# Altium integrated library Texas Instruments Power Management PWM Controller.IntLib: 1227 symbols (part 2 of 49)
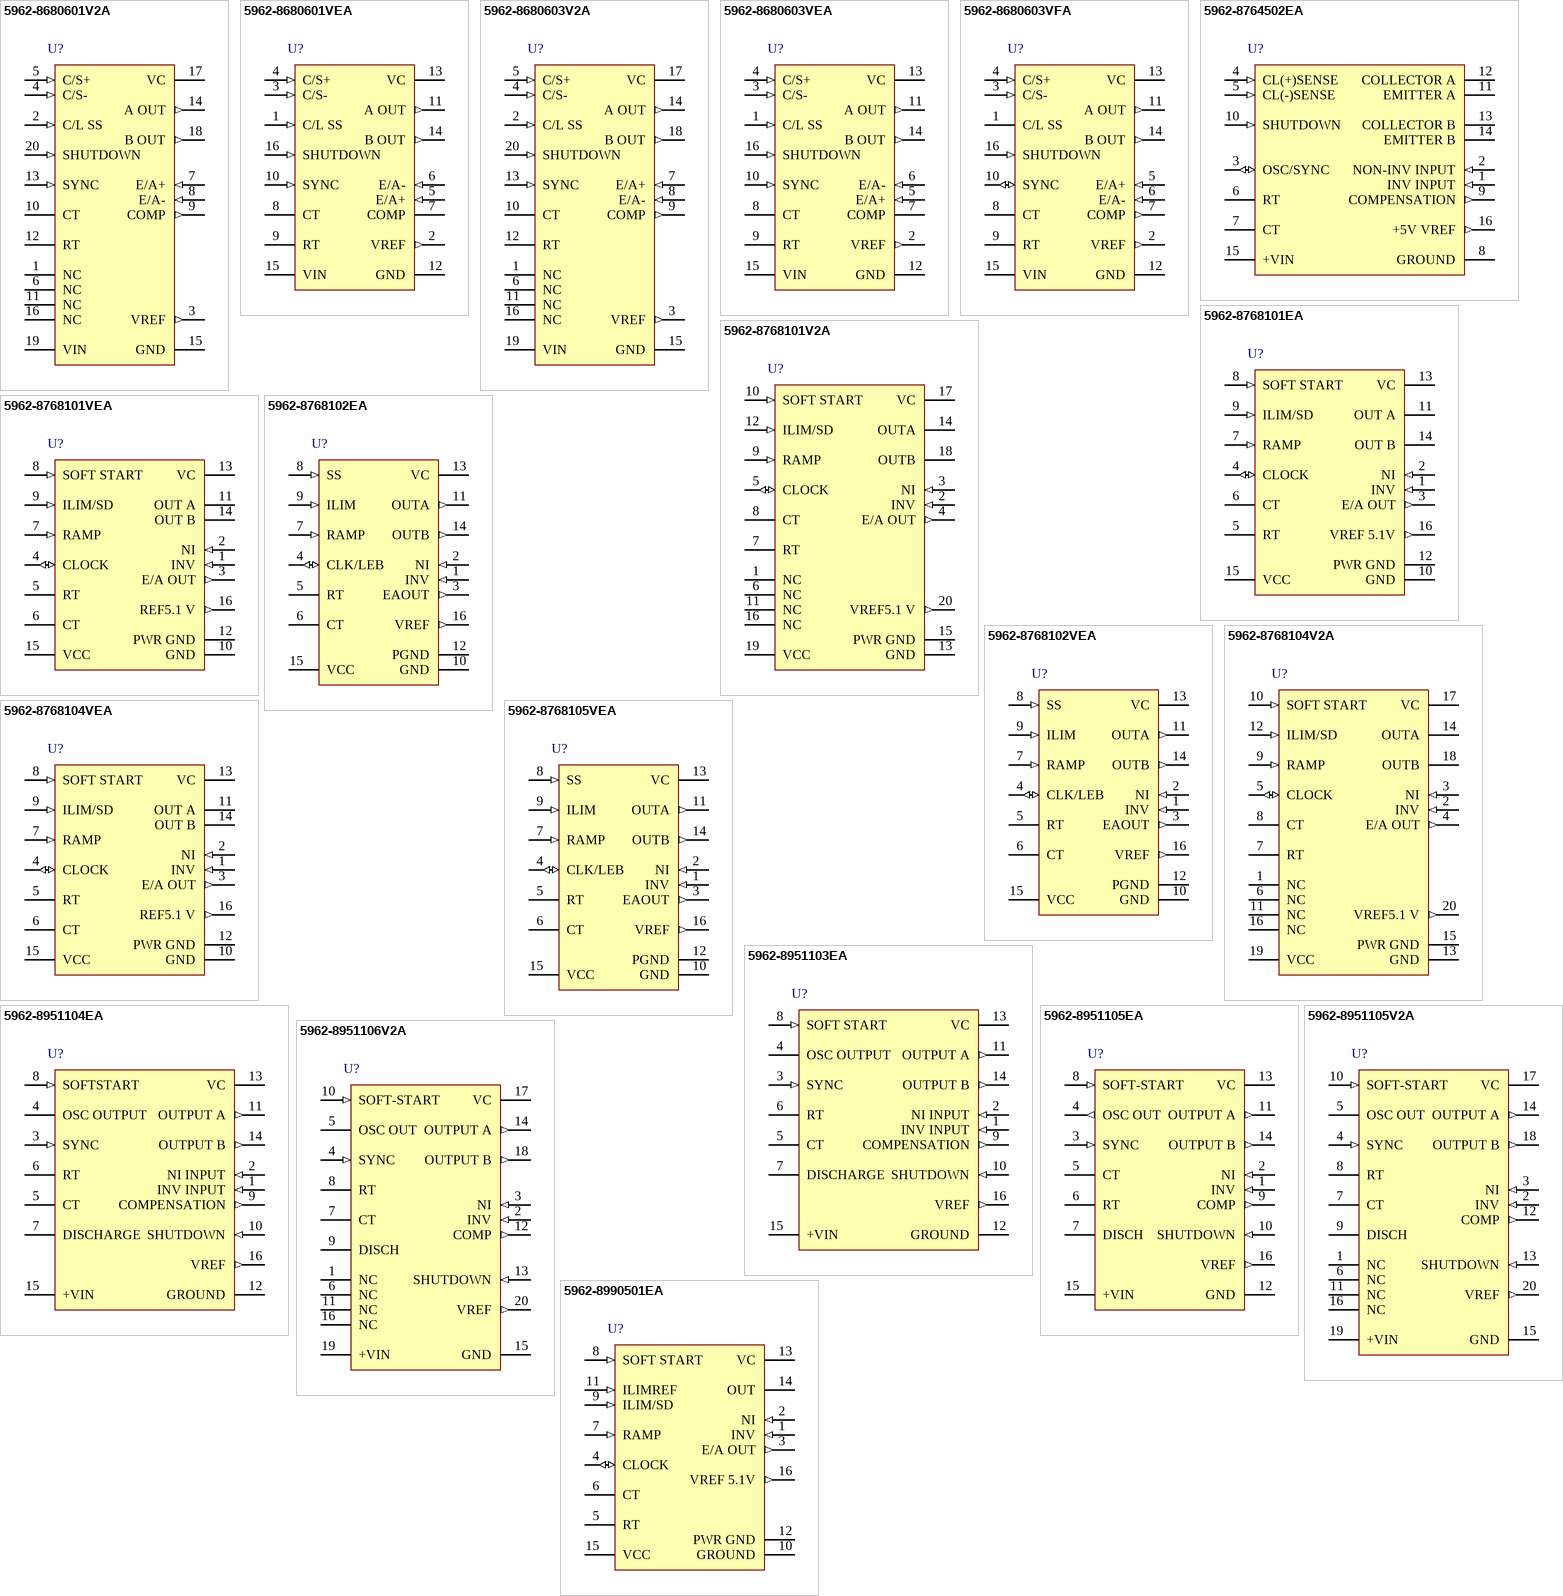
[diagram p44: symbols 5962-8680601V2A to 5962-8990501EA]

## 5962-8768102VEA
designator U?
Rad-Tolerant Class-V, High-Speed PWM Controller with Current Control, 50 % Duty Cycle, -55 to +125 degC, 16-pin CDIP (J); PartNumber: 5962-8768102VEA; Manufacturer: Texas Instruments; Duty Cycle(Max)(%): 50; Eco-Plan: TBD; Frequency(Max)(kHz): 1000; Rating: Space; Regulated Outputs(#): 2; Topology: Boost, Flyback, Forward, Full-Bridge, Half-Bridge, Push-Pull; UVLO Thresholds On/Off(V): 9.2/8.4; DatasheetVersion: SLUS873A; PackageVersion: revF, Mar-2003; PackageReference: J16; PackageDescription: 16-Pin, Ceramic Dual In-Line Package, Row Spacing 7.62 mm, Pitch 2.54 mm; Control Method: Current; SubFamily: PWM Controller; Mounting Technology: Through Hole; ComponentLink1Description: Datasheet; ComponentLink1URL: http://www.ti.com/general/docs/lit/getliterature.tsp?genericPartNumber=UC1825A-SP&fileType=pdf
footprint J16 (DIP, 16-Leads, Row Spacing 7.62mm, Pitch 2.54mm, Body 21.3x6.9mm)
pins: 1 INV (in) "Inverting input to the error amplifier", 2 NI (in) "Non-inverting input to the error amplifier", 3 EAOUT (out) "Output of the error amplifier for compensation", 4 CLK/LEB (io) "Output of the internal oscillator", 5 RT "Timing resistor connection pin for oscillator frequency programming", 6 CT "Timing capacitor connection pin for oscillator frequency programming. The timing capacitor should be connected to the device ground using minimal trace length.", 7 RAMP (in) "Non-inverting input to the PWM comparator with 1.25-V internal input offset. In voltage mode operation,this serves as the input voltage feed-forward function by using the CT ramp. In peak current mode operation, this serves (See Datasheet)", 8 SS (in) "Soft-start input pin which also doubles as the maximum duty cycle clamp.", 9 ILIM (in) "Input to the current limit comparator", 10 GND (power) "Analog ground return pin", 11 OUTA (out) "High current totem pole output A of the on-chip drive stage.", 12 PGND (power) "Ground return pin for the output driver stage", 13 VC (power) "Power supply pin for the output stage. This pin should be bypassed with a 0.1-uF monolithic ceramic low ESL capacitor with minimal trace lengths.", 14 OUTB (out) "High current totem pole output B of the on-chip drive stage.", 15 VCC (power) "Power supply pin for the device. This pin should be bypassed with a 0.1-uF monolithic ceramic low ESL capacitor with minimal trace lengths", 16 VREF (out) "5.1-V reference. For stability, the reference should be bypassed with a 0.1-uF monolithic ceramic low ESL capacitor and minimal trace length to the ground plane."

## 5962-8768104V2A
designator U?
Rad-Tolerant Class V, High-Speed PWM Controller with Current Control, 50 % Duty Cycle, -55 to +125 degC, 20-pin LCCC (FK); PartNumber: 5962-8768104V2A; Manufacturer: Texas Instruments; Duty Cycle(Max)(%): 50; Eco-Plan: TBD; Frequency(Max)(kHz): 1000; Rating: Space; Regulated Outputs(#): 2; Topology: Boost, Flyback, Forward, Full-Bridge, Half-Bridge, Push-Pull; UVLO Thresholds On/Off(V): 9.2/8.4; DatasheetVersion: SLUS870A; PackageVersion: revD, Jan-2011; PackageReference: FK20; PackageDescription: 20-Pin Leadless Ceramic Chip Carrier, 1.27 mm Pitch; Supplier 1: Mouser; Supplier Part Number 1: 595-5962-8768104V2A; Control Method: Current; SubFamily: PWM Controller; Mounting Technology: Surface Mount; Code_JEDEC: MS-004; ComponentLink1Description: Datasheet; ComponentLink1URL: http://www.ti.com/general/docs/lit/getliterature.tsp?genericPartNumber=UC1825-SP&fileType=pdf
footprint FK20_N (Leadless Chip Carrier, 20-Leads, Body 8.9x8.9mm, Pitch 1.27mm, IPC Medium Density)
footprint FK20_L (Leadless Chip Carrier, 20-Leads, Body 8.9x8.9mm, Pitch 1.27mm, IPC High Density)
footprint FK20_M (Leadless Chip Carrier, 20-Leads, Body 8.9x8.9mm, Pitch 1.27mm, IPC Low Density)
pins: 1 NC "No connection", 2 INV (in) "Inverting input to the error amplifier", 3 NI (in) "Non-inverting input to the error amplifier", 4 E/A OUT (out) "Output of the error amplifier for compensation", 5 CLOCK (io) "Output of the internal oscillator", 6 NC "No connection", 7 RT "Timing resistor connection pin for oscillator frequency programming", 8 CT "Timing capacitor connection pin for oscillator frequency programming. The timing capacitor should be connected to the device ground using minimal trace length.", 9 RAMP (in) "Non-inverting input to the PWM comparator with 1.25-V internal input offset. In voltage mode operation this serves as the input voltage feed-forward function by using the CT ramp. In peak current mode operation, this serves (See Datasheet)", 10 SOFT START (in) "Soft-start input pin which also doubles as the maximum duty cycle clamp", 11 NC "No connection", 12 ILIM/SD (in) "Input to the current limit comparator and the shutdown comparator", 13 GND (power) "Analog ground return pin", 14 OUTA (hiz) "High-current totem pole output A of the on-chip drive stage", 15 PWR GND (power) "Ground return pin for the output driver stage", 16 NC "No connection", 17 VC (power) "Power supply pin for the output stage. This pin should be bypassed with a 0.1-uF monolithic ceramic low ESL capacitor with minimal trace lengths.", 18 OUTB (hiz) "High-current totem pole output B of the on-chip drive stage", 19 VCC (power) "Power supply pin for the device. This pin should be bypassed with a 0.1-uF monolithic ceramic low ESL capacitor with minimal trace lengths.", 20 VREF5.1 V (out) "5.1-V reference. For stability, the reference should be bypassed with a 0.1-uF monolithic ceramic low ESL capacitor and minimal trace length to the ground plane."

## 5962-8768104VEA
designator U?
Rad-Tolerant Class V, High-Speed PWM Controller with Current Control, 50 % Duty Cycle, -55 to +125 degC, 16-pin CDIP (J); PartNumber: 5962-8768104VEA; Manufacturer: Texas Instruments; Duty Cycle(Max)(%): 50; Eco-Plan: TBD; Frequency(Max)(kHz): 1000; Rating: Space; Regulated Outputs(#): 2; Topology: Boost, Flyback, Forward, Full-Bridge,Half-Bridge, Push-Pull; UVLO Thresholds On/Off(V): 9.2/8.4; DatasheetVersion: SLUS870A; PackageVersion: revF, Mar-2003; PackageReference: J16; PackageDescription: 16-Pin, Ceramic Dual In-Line Package, Row Spacing 7.62 mm, Pitch 2.54 mm; Supplier 1: Mouser; Supplier Part Number 1: 595-5962-8768104VEA; Control Method: Current; SubFamily: PWM Controller; Mounting Technology: Through Hole; ComponentLink1Description: Datasheet; ComponentLink1URL: http://www.ti.com/general/docs/lit/getliterature.tsp?genericPartNumber=UC1825-SP&fileType=pdf
footprint J16 (DIP, 16-Leads, Row Spacing 7.62mm, Pitch 2.54mm, Body 21.3x6.9mm)
pins: 1 INV (in) "Inverting input to the error amplifier.", 2 NI (in) "Non-inverting input to the error amplifier.", 3 E/A OUT (out) "Output of the error amplifier for compensation.", 4 CLOCK (io) "Output of the internal oscillator.", 5 RT "Timing resistor connection pin for oscillator frequency programming.", 6 CT "Timing capacitor connection pin for oscillator frequency programming. The timing capacitor  should be connected to the device ground using minimal trace length.", 7 RAMP (in) "Non-inverting input to the PWM comparator with 1.25-V internal input offset. In voltage  mode operation this serves as the input voltage feed-forward function by using the CT ramp. In peak current mode operation, this serves (See Datasheet)", 8 SOFT START (in) "Soft-start input pin which also doubles as the maximum duty cycle clamp.", 9 ILIM/SD (in) "Input to the current limit comparator and the shutdown comparator.", 10 GND (power) "Analog ground return pin.", 11 OUT A (hiz) "High-current totem pole output A of the on-chip drive stage.", 12 PWR GND (power) "Ground return pin for the output driver stage.", 13 VC (power) "Power supply pin for the output stage. This pin should be bypassed with a 0.1-uF  monolithic ceramic low ESL capacitor with minimal trace lengths.", 14 OUT B (hiz) "High-current totem pole output B of the on-chip drive stage.", 15 VCC (power) "Power supply pin for the device. This pin should be bypassed with a 0.1-uF monolithic  ceramic low ESL capacitor with minimal trace lengths.", 16 REF5.1 V (out) "5.1-V reference. For stability, the reference should be bypassed with a 0.1-uF monolithic ceramic low ESL capacitor and minimal trace length to the ground plane."

## 5962-8768105VEA
designator U?
Rad-Tolerant Class-V, High-Speed PWM Controller with Current Control, 50 % Duty Cycle, -55 to +125 degC, 16-pin CDIP (J); PartNumber: 5962-8768105VEA; Manufacturer: Texas Instruments; Duty Cycle(Max)(%): 50; Eco-Plan: TBD; Frequency(Max)(kHz): 1000; Rating: Space; Regulated Outputs(#): 2; Topology: Boost, Flyback, Forward, Full-Bridge,Half-Bridge, Push-Pull; UVLO Thresholds On/Off(V): 9.2/8.4; DatasheetVersion: SLUS873A; PackageVersion: revF, Mar-2003; PackageReference: J16; PackageDescription: 16-Pin, Ceramic Dual In-Line Package, Row Spacing 7.62 mm, Pitch 2.54 mm; Supplier 1: Mouser; Supplier Part Number 1: N/A; Control Method: Current; SubFamily: PWM Controller; Mounting Technology: Through Hole; ComponentLink1Description: Datasheet; ComponentLink1URL: http://www.ti.com/general/docs/lit/getliterature.tsp?genericPartNumber=UC1825A-SP&fileType=pdf
footprint J16 (DIP, 16-Leads, Row Spacing 7.62mm, Pitch 2.54mm, Body 21.3x6.9mm)
pins: 1 INV (in) "Inverting input to the error amplifier", 2 NI (in) "Non-inverting input to the error amplifier", 3 EAOUT (out) "Output of the error amplifier for compensation", 4 CLK/LEB (io) "Output of the internal oscillator", 5 RT "Timing resistor connection pin for oscillator frequency programming", 6 CT "Timing capacitor connection pin for oscillator frequency programming. The timing capacitor should be connected to the device ground using minimal trace length.", 7 RAMP (in) "Non-inverting input to the PWM comparator with 1.25-V internal input offset. In voltage mode operation,this serves as the input voltage feed-forward function by using the CT ramp. In peak current mode operation, this serves (See Datasheet)", 8 SS (in) "Soft-start input pin which also doubles as the maximum duty cycle clamp.", 9 ILIM (in) "Input to the current limit comparator", 10 GND (power) "Analog ground return pin", 11 OUTA (out) "High current totem pole output A of the on-chip drive stage.", 12 PGND (power) "Ground return pin for the output driver stage", 13 VC (power) "Power supply pin for the output stage. This pin should be bypassed with a 0.1-uF monolithic ceramic low ESL capacitor with minimal trace lengths.", 14 OUTB (out) "High current totem pole output B of the on-chip drive stage.", 15 VCC (power) "Power supply pin for the device. This pin should be bypassed with a 0.1-uF monolithic ceramic low ESL capacitor with minimal trace lengths", 16 VREF (out) "5.1-V reference. For stability, the reference should be bypassed with a 0.1-uF monolithic ceramic low ESL capacitor and minimal trace length to the ground plane."

## 5962-8951103EA
designator U?
Regulating Pulse Width Modulator with Voltage Control, 50 % Duty Cycle, -55 to +125 degC, 16-pin CDIP (J); PartNumber: 5962-8951103EA; Manufacturer: Texas Instruments; Duty Cycle(Max)(%): 50; Eco-Plan: TBD; Frequency(Max)(kHz): 450; Rating: Military; Regulated Outputs(#): 2; SubFamily: PWM Controller; Topology: Boost, Flyback, Forward, Full-Bridge, Half-Bridge, Push-Pull; DatasheetVersion: SLUS191C; PackageVersion: revF, Mar-2003; PackageReference: J16; PackageDescription: 16-Pin, Ceramic Dual In-Line Package, Row Spacing 7.62 mm, Pitch 2.54 mm; Control Method: Voltage; UVLO Thresholds On/Off(V): 7/6.8; Mounting Technology: Through Hole; ComponentLink1Description: Datasheet; ComponentLink1URL: http://www.ti.com/general/docs/lit/getliterature.tsp?genericPartNumber=UC1525A&fileType=pdf
footprint J16 (DIP, 16-Leads, Row Spacing 7.62mm, Pitch 2.54mm, Body 21.3x6.9mm)
pins: 1 INV INPUT (in), 2 NI INPUT (in), 3 SYNC (in), 4 OSC OUTPUT, 5 CT, 6 RT, 7 DISCHARGE (oc), 8 SOFT START (in), 9 COMPENSATION (out), 10 SHUTDOWN (in), 11 OUTPUT A (out), 12 GROUND (power), 13 VC (power), 14 OUTPUT B (out), 15 +VIN (power), 16 VREF (out)

## 5962-8951104EA
designator U?
Regulating Pulse Width Modulator with Voltage Control, 50 % Duty Cycle, -55 to +125 degC, 16-pin CDIP (J); PartNumber: 5962-8951104EA; Manufacturer: Texas Instruments; Duty Cycle(Max)(%): 50; Eco-Plan: TBD; Frequency(Max)(kHz): 450; Rating: Military; Regulated Outputs(#): 2; SubFamily: PWM Controller; Topology: Boost, Flyback, Forward, Full-Bridge, Half-Bridge, Push-Pull; DatasheetVersion: SLUS191C; PackageVersion: revF, Mar-2003; PackageReference: J16; PackageDescription: 16-Pin, Ceramic Dual In-Line Package, Row Spacing 7.62 mm, Pitch 2.54 mm; Control Method: Voltage; UVLO Thresholds On/Off(V): 7/6.8; Mounting Technology: Through Hole; ComponentLink1Description: Datasheet; ComponentLink1URL: http://www.ti.com/general/docs/lit/getliterature.tsp?genericPartNumber=UC1527A&fileType=pdf
footprint J16 (DIP, 16-Leads, Row Spacing 7.62mm, Pitch 2.54mm, Body 21.3x6.9mm)
pins: 1 INV INPUT (in), 2 NI INPUT (in), 3 SYNC (in), 4 OSC OUTPUT, 5 CT, 6 RT, 7 DISCHARGE (oc), 8 SOFTSTART (in), 9 COMPENSATION (out), 10 SHUTDOWN (in), 11 OUTPUT A (out), 12 GROUND (power), 13 VC (power), 14 OUTPUT B (out), 15 +VIN (power), 16 VREF (out)

## 5962-8951105EA
designator U?
Regulating Pulse Width Modulator with Voltage Control, 50 % Duty Cycle, -55 to +125 degC, 16-pin CDIP (J); PartNumber: 5962-8951105EA; Manufacturer: Texas Instruments; Duty Cycle(Max)(%): 50; Eco-Plan: TBD; Frequency(Max)(kHz): 450; Rating: Military; Regulated Outputs(#): 2; SubFamily: PWM Controller; Topology: Boost, Flyback, Forward, Full-Bridge, Half-Bridge, Push-Pull; DatasheetVersion: SLUS376; PackageVersion: revF, Mar-2003; PackageReference: J16; PackageDescription: 16-Pin, Ceramic Dual In-Line Package, Row Spacing 7.62 mm, Pitch 2.54 mm; Control Method: Voltage; UVLO Thresholds On/Off(V): 7/6.8; Mounting Technology: Through Hole; ComponentLink1Description: Datasheet; ComponentLink1URL: http://www.ti.com/general/docs/lit/getliterature.tsp?genericPartNumber=UC1525B&fileType=pdf
footprint J16 (DIP, 16-Leads, Row Spacing 7.62mm, Pitch 2.54mm, Body 21.3x6.9mm)
pins: 1 INV (in), 2 NI (in), 3 SYNC (in), 4 OSC OUT (out), 5 CT, 6 RT, 7 DISCH (oc), 8 SOFT-START (in), 9 COMP (out), 10 SHUTDOWN (in), 11 OUTPUT A (out), 12 GND (power), 13 VC (power), 14 OUTPUT B (out), 15 +VIN (power), 16 VREF (out)

## 5962-8951105V2A
designator U?
Rad-Tolerant Class-V Regulating Pulse Width Modulator with Voltage Control, 50 % Duty Cycle, -55 to +125 degC, 20-pin LCCC (FK); PartNumber: 5962-8951105V2A; Manufacturer: Texas Instruments; Duty Cycle(Max)(%): 50; Eco-Plan: TBD; Frequency(Max)(kHz): 400; Rating: Space; Regulated Outputs(#): 2; SubFamily: PWM Controller; Topology: Boost, Flyback, Forward, Full-Bridge, Half-Bridge, Push-Pull; DatasheetVersion: SLUS874; PackageVersion: revD, Jan-2011; PackageReference: FK20; PackageDescription: 20-Pin Leadless Ceramic Chip Carrier, 1.27 mm Pitch; Supplier 1: Mouser; Supplier Part Number 1: 595-5962-8951105V2A; Control Method: Voltage; UVLO Thresholds On/Off(V): 7/6.8; Mounting Technology: Surface Mount; Code_JEDEC: MS-004; ComponentLink1Description: Datasheet; ComponentLink1URL: http://www.ti.com/general/docs/lit/getliterature.tsp?genericPartNumber=UC1525B-SP&fileType=pdf
footprint FK20_N (Leadless Chip Carrier, 20-Leads, Body 8.9x8.9mm, Pitch 1.27mm, IPC Medium Density)
footprint FK20_L (Leadless Chip Carrier, 20-Leads, Body 8.9x8.9mm, Pitch 1.27mm, IPC High Density)
footprint FK20_M (Leadless Chip Carrier, 20-Leads, Body 8.9x8.9mm, Pitch 1.27mm, IPC Low Density)
pins: 1 NC, 2 INV (in), 3 NI (in), 4 SYNC (in), 5 OSC OUT, 6 NC, 7 CT, 8 RT, 9 DISCH (oc), 10 SOFT-START (in), 11 NC, 12 COMP (out), 13 SHUTDOWN (in), 14 OUTPUT A (out), 15 GND (power), 16 NC, 17 VC (power), 18 OUTPUT B (out), 19 +VIN (power), 20 VREF (out)

## 5962-8951106V2A
designator U?
Rad-Tolerant Class-V Regulating Pulse Width Modulator with Voltage Control, 50 % Duty Cycle, -55 to +125 degC, 20-pin LCCC (FK); PartNumber: 5962-8951106V2A; Manufacturer: Texas Instruments; Duty Cycle(Max)(%): 50; Eco-Plan: TBD; Frequency(Max)(kHz): 400; Rating: Space; Regulated Outputs(#): 2; SubFamily: PWM Controller; Topology: Boost, Flyback, Forward, Full-Bridge, Half-Bridge, Push-Pul; DatasheetVersion: SLUS874; PackageVersion: revD, Jan-2011; PackageReference: FK20; PackageDescription: 20-Pin Leadless Ceramic Chip Carrier, 1.27 mm Pitch; Supplier 1: Mouser; Supplier Part Number 1: 595-5962-8951106V2A; Control Method: Voltage; UVLO Thresholds On/Off(V): 7/6.8; Mounting Technology: Surface Mount; Code_JEDEC: MS-004; ComponentLink1Description: Datasheet; ComponentLink1URL: http://www.ti.com/general/docs/lit/getliterature.tsp?genericPartNumber=UC1525B-SP&fileType=pdf
footprint FK20_N (Leadless Chip Carrier, 20-Leads, Body 8.9x8.9mm, Pitch 1.27mm, IPC Medium Density)
footprint FK20_L (Leadless Chip Carrier, 20-Leads, Body 8.9x8.9mm, Pitch 1.27mm, IPC High Density)
footprint FK20_M (Leadless Chip Carrier, 20-Leads, Body 8.9x8.9mm, Pitch 1.27mm, IPC Low Density)
pins: 1 NC, 2 INV (in), 3 NI (in), 4 SYNC (in), 5 OSC OUT, 6 NC, 7 CT, 8 RT, 9 DISCH (oc), 10 SOFT-START (in), 11 NC, 12 COMP (out), 13 SHUTDOWN (in), 14 OUTPUT A (out), 15 GND (power), 16 NC, 17 VC (power), 18 OUTPUT B (out), 19 +VIN (power), 20 VREF (out)

## 5962-8990501EA
designator U?
High Speed PWM Controller with Current Control, 100 % Duty Cycle, -55 to +125 degC, 16-pin CDIP (J); PartNumber: 5962-8990501EA; Manufacturer: Texas Instruments; Duty Cycle(Max)(%): 100; Eco-Plan: TBD; Frequency(Max)(kHz): 1000; Rating: Military; Regulated Outputs(#): 1; Topology: Boost, Buck, Flyback, Forward; UVLO Thresholds On/Off(V): 9.2/8.4; DatasheetVersion: SLUS219B; PackageVersion: revF, Mar-2003; PackageReference: J16; PackageDescription: 16-Pin, Ceramic Dual In-Line Package, Row Spacing 7.62 mm, Pitch 2.54 mm; Control Method: Current; SubFamily: PWM Controller; Mounting Technology: Through Hole; ComponentLink1Description: Datasheet; ComponentLink1URL: http://www.ti.com/general/docs/lit/getliterature.tsp?genericPartNumber=UC1823&fileType=pdf
footprint J16 (DIP, 16-Leads, Row Spacing 7.62mm, Pitch 2.54mm, Body 21.3x6.9mm)
pins: 1 INV (in), 2 NI (in), 3 E/A OUT (out), 4 CLOCK (io), 5 RT, 6 CT, 7 RAMP (in), 8 SOFT START (in), 9 ILIM/SD (in), 10 GROUND (power), 11 ILIMREF (in), 12 PWR GND (power), 13 VC (power), 14 OUT (hiz), 15 VCC (power), 16 VREF 5.1V (out)

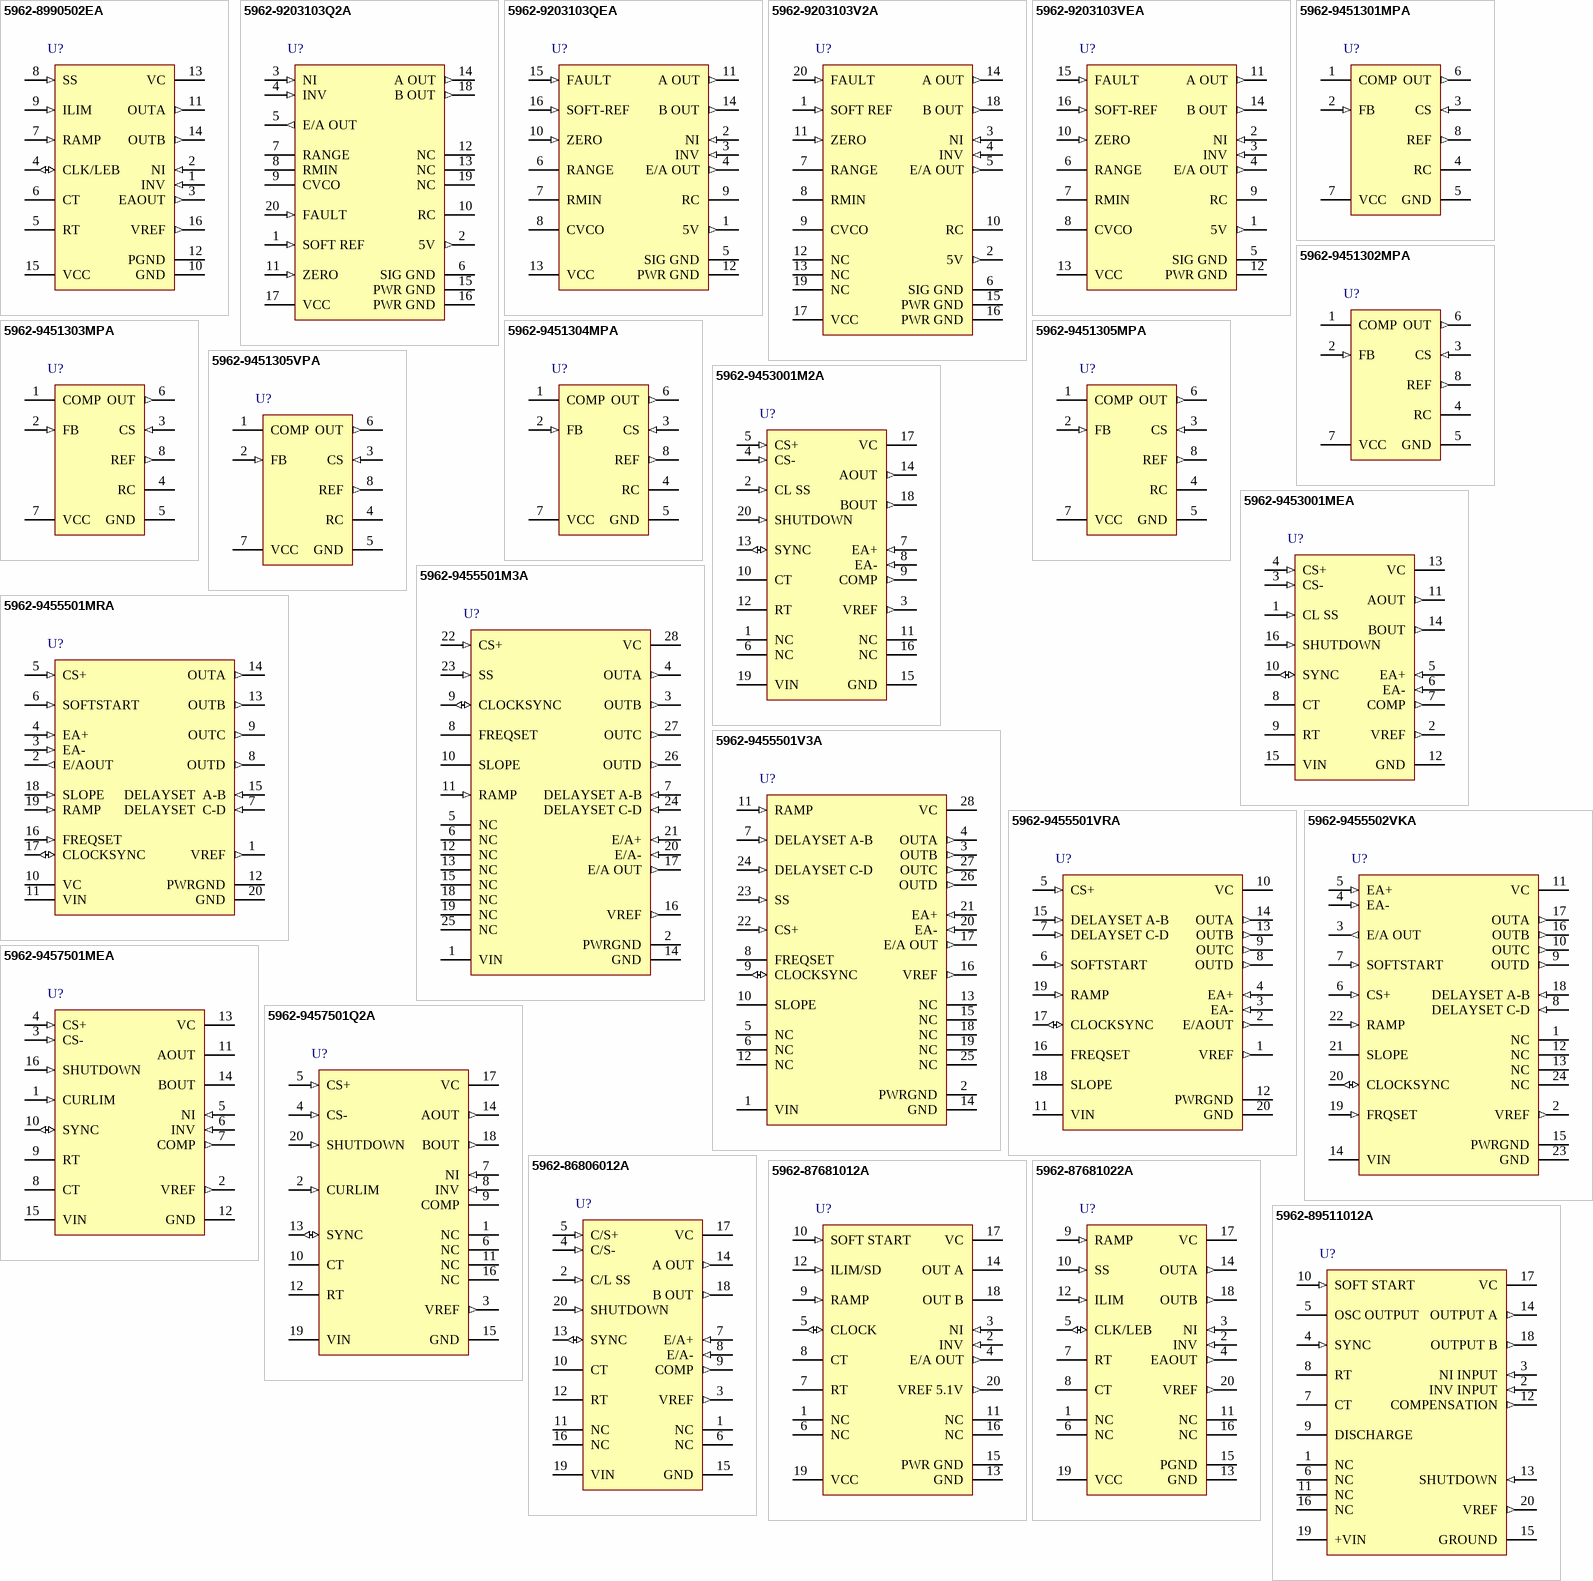
[diagram p2: symbols 5962-8990502EA to 5962-89511012A]

## 5962-8990502EA
designator U?
High-Speed PWM Controller with Current Control, 100 % Duty Cycle, -55 to +125 degC, 16-pin CDIP (J); PartNumber: 5962-8990502EA; Manufacturer: Texas Instruments; Duty Cycle(Max)(%): 100; Eco-Plan: TBD; Frequency(Max)(kHz): 1000; Rating: Military; Regulated Outputs(#): 1; Topology: Boost, Buck, Flyback, Forward; UVLO Thresholds On/Off(V): 16/10; DatasheetVersion: SLUS334E; PackageVersion: revF, Mar-2003; PackageReference: J16; PackageDescription: 16-Pin, Ceramic Dual In-Line Package, Row Spacing 7.62 mm, Pitch 2.54 mm; Control Method: Current; SubFamily: PWM Controller; Mounting Technology: Through Hole; ComponentLink1Description: Datasheet; ComponentLink1URL: http://www.ti.com/general/docs/lit/getliterature.tsp?genericPartNumber=UC1823A&fileType=pdf
footprint J16 (DIP, 16-Leads, Row Spacing 7.62mm, Pitch 2.54mm, Body 21.3x6.9mm)
pins: 1 INV (in) "Inverting input to the error amplifier", 2 NI (in) "Non-inverting input to the error amplifier", 3 EAOUT (out) "Output of the error amplifier for compensation", 4 CLK/LEB (io) "Output of the internal oscillator", 5 RT "Timing resistor connection pin for oscillator frequency programming", 6 CT "Timing capacitor connection pin for oscillator frequency programming. The timing capacitor should be connected to the device ground using minimal trace length.", 7 RAMP (in) "Non-inverting input to the PWM comparator with 1.25-V internal input offset. In voltage mode operation, this serves as the input voltage feed-forward function by using the CT ramp. In peak current mode operation, this serves (See Datasheet)", 8 SS (in) "Soft-start input pin which also doubles as the maximum duty cycle clamp.", 9 ILIM (in) "Input to the current limit comparator", 10 GND (power) "Analog ground return pin", 11 OUTA (out) "High current totem pole output A of the on-chip drive stage.", 12 PGND (power) "Ground return pin for the output driver stage", 13 VC (power) "Power supply pin for the output stage. This pin should be bypassed with a 0.1-uF monolithic ceramic low ESL capacitor with minimal trace lengths", 14 OUTB (out) "High current totem pole output B of the on-chip drive stage", 15 VCC (power) "Power supply pin for the device. This pin should be bypassed with a 0.1-uF monolithic ceramic low ESL capacitor with minimal trace lengths", 16 VREF (out) "5.1-V reference. For stability, the reference should be bypassed with a 0.1-uF monolithic ceramic low ESL capacitor and minimal trace length to the ground plane."

## 5962-9203103Q2A
designator U?
Resonant-Mode Power Supply Controller with Voltage Control, 50 % Duty Cycle, -55 to +125 degC, 20-pin LCCC (FK); PartNumber: 5962-9203103Q2A; Manufacturer: Texas Instruments; Duty Cycle(Max)(%): 50; Eco-Plan: TBD; Frequency(Max)(kHz): 450; Rating: Military; Regulated Outputs(#): 2; SubFamily: PWM Controller; Topology: Full-Bridge, Half-Bridge, Push-Pull; UVLO Thresholds On/Off(V): 8/7; DatasheetVersion: SLUS289B; PackageVersion: revD, Jan-2011; PackageReference: FK20; PackageDescription: 20-Pin Leadless Ceramic Chip Carrier, 1.27 mm Pitch; Control Method: Voltage; Mounting Technology: Surface Mount; Code_JEDEC: MS-004; ComponentLink1Description: Datasheet; ComponentLink1URL: http://www.ti.com/general/docs/lit/getliterature.tsp?genericPartNumber=UC1863&fileType=pdf
footprint FK20_N (Leadless Chip Carrier, 20-Leads, Body 8.9x8.9mm, Pitch 1.27mm, IPC Medium Density)
footprint FK20_L (Leadless Chip Carrier, 20-Leads, Body 8.9x8.9mm, Pitch 1.27mm, IPC High Density)
footprint FK20_M (Leadless Chip Carrier, 20-Leads, Body 8.9x8.9mm, Pitch 1.27mm, IPC Low Density)
pins: 1 SOFT REF (in), 2 5V (out), 3 NI (in), 4 INV (in), 5 E/A OUT (out), 6 SIG GND (power), 7 RANGE, 8 RMIN, 9 CVCO, 10 RC, 11 ZERO (in), 12 NC, 13 NC, 14 A OUT (out), 15 PWR GND (power), 16 PWR GND (power), 17 VCC (power), 18 B OUT (out), 19 NC, 20 FAULT (in)

## 5962-9203103QEA
designator U?
Resonant-Mode Power Supply Controller with Voltage Control, 50 % Duty Cycle, -55 to +125 degC, 16-pin CDIP (J); PartNumber: 5962-9203103QEA; Manufacturer: Texas Instruments; Duty Cycle(Max)(%): 50; Eco-Plan: TBD; Frequency(Max)(kHz): 450; Rating: Military; Regulated Outputs(#): 2; SubFamily: PWM Controller; Topology: Full-Bridge, Half-Bridge, Push-Pull; UVLO Thresholds On/Off(V): 8/7; DatasheetVersion: SLUS289B; PackageVersion: revF, Mar-2003; PackageReference: J16; PackageDescription: 16-Pin, Ceramic Dual In-Line Package, Row Spacing 7.62 mm, Pitch 2.54 mm; Control Method: Voltage; Mounting Technology: Through Hole; ComponentLink1Description: Datasheet; ComponentLink1URL: http://www.ti.com/general/docs/lit/getliterature.tsp?genericPartNumber=UC1863&fileType=pdf
footprint J16 (DIP, 16-Leads, Row Spacing 7.62mm, Pitch 2.54mm, Body 21.3x6.9mm)
pins: 1 5V (out), 2 NI (in), 3 INV (in), 4 E/A OUT (out), 5 SIG GND (power), 6 RANGE, 7 RMIN, 8 CVCO, 9 RC, 10 ZERO (in), 11 A OUT (out), 12 PWR GND (power), 13 VCC (power), 14 B OUT (out), 15 FAULT (in), 16 SOFT-REF (in)

## 5962-9203103V2A
designator U?
Resonant-Mode Power Supply Controller, -55 to +125 degC, 20-pin LCCC (FK); PartNumber: 5962-9203103V2A; Manufacturer: Texas Instruments; Eco-Plan: TBD; Rating: Space; SubFamily: PWM Controller; PackageVersion: revD, Jan-2011; PackageReference: FK20; PackageDescription: 20-Pin Leadless Ceramic Chip Carrier, 1.27 mm Pitch; Mounting Technology: Surface Mount; Code_JEDEC: MS-004; ComponentLink1Description: Datasheet; ComponentLink1URL: http://www.ti.com/general/docs/lit/getliterature.tsp?genericPartNumber=UC1863-SP&fileType=pdf
footprint FK20_N (Leadless Chip Carrier, 20-Leads, Body 8.9x8.9mm, Pitch 1.27mm, IPC Medium Density)
footprint FK20_L (Leadless Chip Carrier, 20-Leads, Body 8.9x8.9mm, Pitch 1.27mm, IPC High Density)
footprint FK20_M (Leadless Chip Carrier, 20-Leads, Body 8.9x8.9mm, Pitch 1.27mm, IPC Low Density)
pins: 1 SOFT REF (in), 2 5V (out), 3 NI (in), 4 INV (in), 5 E/A OUT (out), 6 SIG GND (power), 7 RANGE, 8 RMIN, 9 CVCO, 10 RC, 11 ZERO (in), 12 NC, 13 NC, 14 A OUT (out), 15 PWR GND (power), 16 PWR GND (power), 17 VCC (power), 18 B OUT (out), 19 NC, 20 FAULT (in)

## 5962-9203103VEA
designator U?
Resonant-Mode Power Supply Controller, -55 to +125 degC, 16-pin CDIP (J); PartNumber: 5962-9203103VEA; Manufacturer: Texas Instruments; Eco-Plan: TBD; Rating: Space; SubFamily: PWM Controller; PackageVersion: revF, Mar-2003; PackageReference: J16; PackageDescription: 16-Pin, Ceramic Dual In-Line Package, Row Spacing 7.62 mm, Pitch 2.54 mm; Mounting Technology: Through Hole; ComponentLink1Description: Datasheet; ComponentLink1URL: http://www.ti.com/general/docs/lit/getliterature.tsp?genericPartNumber=UC1863-SP&fileType=pdf
footprint J16 (DIP, 16-Leads, Row Spacing 7.62mm, Pitch 2.54mm, Body 21.3x6.9mm)
pins: 1 5V (out), 2 NI (in), 3 INV (in), 4 E/A OUT (out), 5 SIG GND (power), 6 RANGE, 7 RMIN, 8 CVCO, 9 RC, 10 ZERO (in), 11 A OUT (out), 12 PWR GND (power), 13 VCC (power), 14 B OUT (out), 15 FAULT (in), 16 SOFT-REF (in)

## 5962-9451301MPA
designator U?
Low-Power BiCMOS PWM with Current control, 50 % Duty Cycle, -55 to +125 degC, 8-pin CDIP (JG); PartNumber: 5962-9451301MPA; Manufacturer: Texas Instruments; Duty Cycle(Max)(%): 50; Eco-Plan: TBD; Frequency(Max)(kHz): 1000; Rating: Military; Regulated Outputs(#): 1; SubFamily: PWM Controller; Topology: Boost, Flyback, Forward; UVLO Thresholds On/Off(V): 9.4/7.4; DatasheetVersion: SLUS270D; PackageVersion: revC, Aug-1996; PackageReference: JG8; PackageDescription: 8-Pin Ceramic Dual-In-Line Package, Row Spacing 7.62 mm, Pitch 2.54 mm; Control Method: Current; Mounting Technology: Through Hole; ComponentLink1Description: Datasheet; ComponentLink1URL: http://www.ti.com/general/docs/lit/getliterature.tsp?genericPartNumber=UCC1801&fileType=pdf
footprint JG8 (DIP, 8-Leads, Row Spacing 7.62mm, Pitch 2.54mm, Body 9.6x6.7mm)
pins: 1 COMP "COMP is the output of the error amplifier and the input of the PWM comparator.", 2 FB (in) "FB is the inverting input of the error amplifier.For best stability,keep FB lead length as short as possible and FB stray capacitance as small as possible.", 3 CS (in) "CS is the input to the current sense comparators.The UCC3800 family has two different current sense comparators:the PWM comparator and an over-current comparator.", 4 RC "RC is the oscillator timing pin.For fixed frequency operation,set timing capacitor charging current by connecting a resistor from REF to RC.Set frequency by connecting a timing capacitor from RC to GND.", 5 GND (power) "GND is reference ground and power ground for all functions on this part.", 6 OUT (out) "OUT is the output of a high-current power driver capable of driving the gate of a power MOSFET with peak currents exceeding +/-750mA.OUT is actively held low when VCC is below the UVLO threshold.", 7 VCC (power) "VCC is the power input connection for this device.", 8 REF (out) "REF is the voltage reference for the error amplifier and also for many other functions on the IC.REF is also used as the logic power supply for high speed switching logic on the IC."

## 5962-9451302MPA
designator U?
Low-Power BiCMOS PWM with Current Control, 100 % Duty Cycle, -55 to +125 degC, 8-pin CDIP (JG); PartNumber: 5962-9451302MPA; Manufacturer: Texas Instruments; Duty Cycle(Max)(%): 100; Eco-Plan: TBD; Frequency(Max)(kHz): 1000; Rating: Military; Regulated Outputs(#): 1; SubFamily: PWM Controller; Topology: Boost, Flyback, Forward; UVLO Thresholds On/Off(V): 12.5/8.3; DatasheetVersion: SLUS270D; PackageVersion: revC, Aug-1996; PackageReference: JG8; PackageDescription: 8-Pin Ceramic Dual-In-Line Package, Row Spacing 7.62 mm, Pitch 2.54 mm; Control Method: Current; Mounting Technology: Through Hole; ComponentLink1Description: Datasheet; ComponentLink1URL: http://www.ti.com/general/docs/lit/getliterature.tsp?genericPartNumber=UCC1802&fileType=pdf
footprint JG8 (DIP, 8-Leads, Row Spacing 7.62mm, Pitch 2.54mm, Body 9.6x6.7mm)
pins: 1 COMP "COMP is the output of the error amplifier and the input of the PWM comparator.", 2 FB (in) "FB is the inverting input of the error amplifier.For best stability,keep FB lead length as short as possible and FB stray capacitance as small as possible.", 3 CS (in) "CS is the input to the current sense comparators.The UCC3800 family has two different current sense comparators:the PWM comparator and an over-current comparator.", 4 RC "RC is the oscillator timing pin.For fixed frequency operation,set timing capacitor charging current by connecting a resistor from REF to RC.Set frequency by connecting a timing capacitor from RC to GND.", 5 GND (power) "GND is reference ground and power ground for all functions on this part.", 6 OUT (out) "OUT is the output of a high-current power driver capable of driving the gate of a power MOSFET with peak currents exceeding +/-750mA.OUT is actively held low when VCC is below the UVLO threshold.", 7 VCC (power) "VCC is the power input connection for this device.", 8 REF (out) "REF is the voltage reference for the error amplifier and also for many other functions on the IC.REF is also used as the logic power supply for high speed switching logic on the IC."

## 5962-9451303MPA
designator U?
Low-Power BiCMOS PWM with Current Control, 100 % Duty Cycle, -55 to +125 degC, 8-pin CDIP (JG); PartNumber: 5962-9451303MPA; Manufacturer: Texas Instruments; Duty Cycle(Max)(%): 100; Eco-Plan: TBD; Frequency(Max)(kHz): 1000; Rating: Military; Regulated Outputs(#): 1; SubFamily: PWM Controller; Topology: Boost, Flyback, Forward; UVLO Thresholds On/Off(V): 4.1/3.6; DatasheetVersion: SLUS270D; PackageVersion: revC, Aug-1996; PackageReference: JG8; PackageDescription: 8-Pin Ceramic Dual-In-Line Package, Row Spacing 7.62 mm, Pitch 2.54 mm; Control Method: Current; Mounting Technology: Through Hole; ComponentLink1Description: Datasheet; ComponentLink1URL: http://www.ti.com/general/docs/lit/getliterature.tsp?genericPartNumber=UCC1803&fileType=pdf
footprint JG8 (DIP, 8-Leads, Row Spacing 7.62mm, Pitch 2.54mm, Body 9.6x6.7mm)
pins: 1 COMP "COMP is the output of the error amplifier and the input of the PWM comparator.", 2 FB (in) "FB is the inverting input of the error amplifier.For best stability,keep FB lead length as short as possible and FB stray capacitance as small as possible.", 3 CS (in) "CS is the input to the current sense comparators.The UCC3800 family has two different current sense comparators:the PWM comparator and an over-current comparator.", 4 RC "RC is the oscillator timing pin.For fixed frequency operation,set timing capacitor charging current by connecting a resistor from REF to RC.Set frequency by connecting a timing capacitor from RC to GND.", 5 GND (power) "GND is reference ground and power ground for all functions on this part.", 6 OUT (out) "OUT is the output of a high-current power driver capable of driving the gate of a power MOSFET with peak currents exceeding +/-750mA.OUT is actively held low when VCC is below the UVLO threshold.", 7 VCC (power) "VCC is the power input connection for this device.", 8 REF (out) "REF is the voltage reference for the error amplifier and also for many other functions on the IC.REF is also used as the logic power supply for high speed switching logic on the IC."

## 5962-9451304MPA
designator U?
Low-Power BiCMOS PWM with Current Control, 50 % Duty Cycle, -55 to +125 degC, 8-pin CDIP (JG); PartNumber: 5962-9451304MPA; Manufacturer: Texas Instruments; Duty Cycle(Max)(%): 50; Eco-Plan: TBD; Frequency(Max)(kHz): 1000; Rating: Military; Regulated Outputs(#): 1; SubFamily: PWM Controller; Topology: Boost, Flyback, Forward; UVLO Thresholds On/Off(V): 12.5/8.3; DatasheetVersion: SLUS270D; PackageVersion: revC, Aug-1996; PackageReference: JG8; PackageDescription: 8-Pin Ceramic Dual-In-Line Package, Row Spacing 7.62 mm, Pitch 2.54 mm; Control Method: Current; Mounting Technology: Through Hole; ComponentLink1Description: Datasheet; ComponentLink1URL: http://www.ti.com/general/docs/lit/getliterature.tsp?genericPartNumber=UCC1804&fileType=pdf
footprint JG8 (DIP, 8-Leads, Row Spacing 7.62mm, Pitch 2.54mm, Body 9.6x6.7mm)
pins: 1 COMP "COMP is the output of the error amplifier and the input of the PWM comparator", 2 FB (in) "FB is the inverting input of the error amplifier.For best stability,keep FB lead length as short as possible and FB stray capacitance as samll as possible", 3 CS (in) "CS is the input to the current sense comparators.The UCC3800 family has two different current sense comparators:the PWM comparator and an over-current comparator", 4 RC "RC is the oscillator timing pin", 5 GND (power) "GND is reference ground and power ground for all functions on this part", 6 OUT (out) "OUT is the output of a high-current power driver capable of driving the gate of a power MOSFET with peak currents excedding +/-750mA", 7 VCC (power) "The power input connect for this device", 8 REF (out) "The voltage reference for the error amplifier and also for many other functions on the IC"

## 5962-9451305MPA
designator U?
Low-Power BiCMOS PWM with Current Control, 50 % Duty Cycle, -55 to +125 degC, 8-pin CDIP (JG); PartNumber: 5962-9451305MPA; Manufacturer: Texas Instruments; Duty Cycle(Max)(%): 50; Eco-Plan: TBD; Frequency(Max)(kHz): 1000; Rating: Military; Regulated Outputs(#): 1; SubFamily: PWM Controller; Topology: Boost, Flyback, Forward; UVLO Thresholds On/Off(V): 4.1/3.6; DatasheetVersion: SLUS270D; PackageVersion: revC, Aug-1996; PackageReference: JG8; PackageDescription: 8-Pin Ceramic Dual-In-Line Package, Row Spacing 7.62 mm, Pitch 2.54 mm; Control Method: Current; Mounting Technology: Through Hole; ComponentLink1Description: Datasheet; ComponentLink1URL: http://www.ti.com/general/docs/lit/getliterature.tsp?genericPartNumber=UCC1805&fileType=pdf
footprint JG8 (DIP, 8-Leads, Row Spacing 7.62mm, Pitch 2.54mm, Body 9.6x6.7mm)
pins: 1 COMP "COMP is the output of the error amplifier and the input of the PWM comparator", 2 FB (in) "FB is the inverting input of the error amplifier.For best stability,keep FB lead length as short as possible and FB stray capacitance as samll as possible", 3 CS (in) "CS is the input to the current sense comparators.The UCC3800 family has two different current sense comparators:the PWM comparator and an over-current comparator", 4 RC "RC is the oscillator timing pin", 5 GND (power) "GND is reference ground and power ground for all functions on this part", 6 OUT (out) "OUT is the output of a high-current power driver capable of driving the gate of a power MOSFET with peak currents excedding +/-750mA", 7 VCC (power) "The power input connect for this device", 8 REF (out) "The voltage reference for the error amplifier and also for many other functions on the IC"

## 5962-9451305VPA
designator U?
Low-Power BiCMOS Current-Mode PWM, -55 to +125 degC, 8-pin CDIP (JG); PartNumber: 5962-9451305VPA; Manufacturer: Texas Instruments; Eco-Plan: TBD; Rating: Space; SubFamily: PWM Controller; DatasheetVersion: SLUS270D; PackageVersion: revC, Aug-1996; PackageReference: JG8; PackageDescription: 8-Pin Ceramic Dual-In-Line Package, Row Spacing 7.62 mm, Pitch 2.54 mm; Mounting Technology: Through Hole; ComponentLink1Description: Datasheet; ComponentLink1URL: http://www.ti.com/general/docs/lit/getliterature.tsp?genericPartNumber=UCC1805-SP&fileType=pdf
footprint JG8 (DIP, 8-Leads, Row Spacing 7.62mm, Pitch 2.54mm, Body 9.6x6.7mm)
pins: 1 COMP "COMP is the output of the error amplifier and the input of the PWM comparator.", 2 FB (in) "FB is the inverting input of the error amplifier.For best stability,keep FB lead length as short as possible andFB stray capacitance as small as possible.", 3 CS (in) "CS is the input to the current sense comparators.", 4 RC "RC is the oscillator timing pin.For fixed frequency operation,set timing capacitor charging current by connecting a resistor from REF to RC.Set frequency by connecting a timing capacitor from RC to GND.For best  performance, (See Datasheet)", 5 GND (power) "GND is reference ground and power ground for all functions on this part.", 6 OUT (out) "OUT is the output of a high-current power driver capable of driving the gate of a power MOSFET with peak currents exceeding +/-750mA.OUT is actively held low when VCCis below the UVLO threshold", 7 VCC (power) "VCC is the power input connection for this device. In normal operation VCC is powerde through a current is very low,total supply current will be higher,depengding on OUT current.Total VCC current is the sum of  quiescent VCC (See Datasheet)", 8 REF (out) "REF is the voltage reference for the error amolifier and also for many other functions on the IC.REF is also used as the logic power supply  for high speed switching logic on the IC."

## 5962-9453001M2A
designator U?
Improved PWM Controller with Current Control, 50 % Duty Cycle, -55 to +125 degC, 20-pin LCCC (FK); PartNumber: 5962-9453001M2A; Manufacturer: Texas Instruments; Duty Cycle(Max)(%): 50; Eco-Plan: TBD; Frequency(Max)(kHz): 1000; Rating: Military; Regulated Outputs(#): 2; Topology: Boost, Flyback, Forward, Full-Bridge, Half-Bridge, Push-Pull; DatasheetVersion: SLUS227A; PackageVersion: revD, Jan-2011; PackageReference: FK20; PackageDescription: 20-Pin Leadless Ceramic Chip Carrier, 1.27 mm Pitch; Control Method: Current; SubFamily: PWM Controller; UVLO Thresholds On/Off(V): 7.7/7; Mounting Technology: Surface Mount; Code_JEDEC: MS-004; ComponentLink1Description: Datasheet; ComponentLink1URL: http://www.ti.com/general/docs/lit/getliterature.tsp?genericPartNumber=UC1856&fileType=pdf
footprint FK20_N (Leadless Chip Carrier, 20-Leads, Body 8.9x8.9mm, Pitch 1.27mm, IPC Medium Density)
footprint FK20_L (Leadless Chip Carrier, 20-Leads, Body 8.9x8.9mm, Pitch 1.27mm, IPC High Density)
footprint FK20_M (Leadless Chip Carrier, 20-Leads, Body 8.9x8.9mm, Pitch 1.27mm, IPC Low Density)
pins: 1 NC, 2 CL SS (in), 3 VREF (out), 4 CS- (in), 5 CS+ (in), 6 NC, 7 EA+ (in), 8 EA- (in), 9 COMP (out), 10 CT, 11 NC, 12 RT, 13 SYNC (io), 14 AOUT (out), 15 GND (power), 16 NC, 17 VC (power), 18 BOUT (out), 19 VIN (power), 20 SHUTDOWN (in)

## 5962-9453001MEA
designator U?
Improved PWM Controller with Current Control, 50 % Duty Cycle, -55 to +125 degC, 16-pin CDIP (J); PartNumber: 5962-9453001MEA; Manufacturer: Texas Instruments; Duty Cycle(Max)(%): 50; Eco-Plan: TBD; Frequency(Max)(kHz): 1000; Rating: Military; Regulated Outputs(#): 2; Topology: Boost, Flyback, Forward, Full-Bridge, Half-Bridge, Push-Pull; DatasheetVersion: SLUS227A; PackageVersion: revF, Mar-2003; PackageReference: J16; PackageDescription: 16-Pin, Ceramic Dual In-Line Package, Row Spacing 7.62 mm, Pitch 2.54 mm; Control Method: Current; SubFamily: PWM Controller; UVLO Thresholds On/Off(V): 7.7/7; Mounting Technology: Through Hole; ComponentLink1Description: Datasheet; ComponentLink1URL: http://www.ti.com/general/docs/lit/getliterature.tsp?genericPartNumber=UC1856&fileType=pdf
footprint J16 (DIP, 16-Leads, Row Spacing 7.62mm, Pitch 2.54mm, Body 21.3x6.9mm)
pins: 1 CL SS (in), 2 VREF (out), 3 CS- (in), 4 CS+ (in), 5 EA+ (in), 6 EA- (in), 7 COMP (out), 8 CT, 9 RT, 10 SYNC (io), 11 AOUT (out), 12 GND (power), 13 VC (power), 14 BOUT (out), 15 VIN (power), 16 SHUTDOWN (in)

## 5962-9455501M3A
designator U?
Phase Shift Resonant Controller with Current, Voltage Control, 100 % Duty Cycle, -55 to +125 degC, 28-pin LCCC (FK); PartNumber: 5962-9455501M3A; Manufacturer: Texas Instruments; Duty Cycle(Max)(%): 100; Eco-Plan: TBD; Frequency(Max)(kHz): 1000; Rating: Military; Regulated Outputs(#): 4; SubFamily: PWM Controller; Topology: Full-Bridge; UVLO Thresholds On/Off(V): 10/7/9.2; DatasheetVersion: SLUS229C; PackageVersion: revD, Jan-2011; PackageReference: FK28; PackageDescription: 28-Pin Ceramic Leadless Chip Carrier 1.27 mm Pitch; Control Method: Current, Voltage; Mounting Technology: Surface Mount; Code_JEDEC: MS-004; ComponentLink1Description: Datasheet; ComponentLink1URL: http://www.ti.com/general/docs/lit/getliterature.tsp?genericPartNumber=UC1875&fileType=pdf
footprint FK28_N (Leadless Chip Carrier, 28-Leads, Body 11.4x11.4mm, Pitch 1.27mm, IPC Medium Density)
footprint FK28_L (Leadless Chip Carrier, 28-Leads, Body 11.4x11.4mm, Pitch 1.27mm, IPC High Density)
footprint FK28_M (Leadless Chip Carrier, 28-Leads, Body 11.4x11.4mm, Pitch 1.27mm, IPC Low Density)
pins: 1 VIN (power) "This pin supplies power to the logic and analogy circuitry on the integrated circuit that is not directly associated with driving the output stages. Connect VIN to a stable source above 12V for normal operation. To ensure (See Datasheet)", 2 PWRGND (power) "VC should be bypassed with a ceramic capacitor from the VC pin to the section of the ground plane that is connected to PWRGND. Any required bulk reservoir capacitor should parallel this one. Power ground and signal ground (See Datasheet)", 3 OUTB (out) "The output is 2A totem-pole drivers optimized for both MOSFET gates and level-shifting transformers. The outputs operate as pairs with a nominal 50% duty-cycle. The A-B pair is intended to drive one half-bridge in the (See Datasheet)", 4 OUTA (out) "The output is 2A totem-pole drivers optimized for both MOSFET gates and level-shifting transformers. The outputs operate as pairs with a nominal 50% duty-cycle. The A-B pair is intended to drive one half-bridge in the (See Datasheet)", 5 NC "No Connection", 6 NC "No Connection", 7 DELAYSET A-B (in) "The user programmed current flowing from these pins to GND set the turn-on delay for the corresponding output pair. This delay is introduced between turn-off of one switch and turn-on of another in the same leg of the bridge (See Datasheet)", 8 FREQSET "A resistor and a capacitor from FREQSET to GND will set the oscillator frequency.", 9 CLOCKSYNC (io) "Used as an output ,this pin provides a clock signal. As an input, this pin provides a synchronization point. In its simplest usage, multiple devices, each with their own local oscillator frequency, may be connected together (See Datasheet)", 10 SLOPE "A resistor from this pin to VCC will set the current used to generate the ramp. Connecting this resistor to the DC input line voltage will provide voltage feed-forward.", 11 RAMP (in) "This pin is input to the PWM comparator. Connect a capacitor from here to GND. Current mode control may be achieved with a minimum amount of external circuitry, in which case this pin provides slope compensation. Because of (See Datasheet)", 12 NC "No Connection", 13 NC "No Connection", 14 GND (power) "All voltages are measured with respect to GND. The timing capacitor, on the FREQSET pin, any bypass capacitor on the VREF pin, bypass capacitors on VIN and the ramp capacitor, on the RAMP pin, should be connected directly to (See Datasheet)", 15 NC "No Connection", 16 VREF (out) "This pin is an accurate 5V voltage reference. This output is capable of delivering about 60mA to peripheral circuitry and is internally short circuit current limited. VERF is disabled while VIN is low enough to force the (See Datasheet)", 17 E/A OUT (out) "This is the gain stage for overall feedback control. Error amplifier output voltage levels below 1 volt will force 0 phase shift. Since the error amplifier has a relatively low current drive capability, the output may be (See Datasheet)", 18 NC "No Connection", 19 NC "No Connection", 20 E/A- (in) "This is normally connected to the voltage divider resistors which sense the power supply output voltage level.", 21 E/A+ (in) "This normally connected to a reference voltage used for comparison with the sensed power supply output voltage level at the EA+ pin.", 22 CS+ (in) "The non-inverting input to the current-fault comparator whose reference is set internally to a fixed 2.5V(separate from VREF).When the voltage at this pin exceeds 2.5V the current-fault latch is set, the outputs are forced (See Datasheet)", 23 SS (in) "SOFTSTART will remain at GND as long as VIN is below the UVLO threshold. SOFTSTART will be pulled up to about 4.8V by an internal 9uA current source when VIN becomes valid(assuming a non-fault exceeding 2.5V),SOFTSTART will (See Datasheet)", 24 DELAYSET C-D (in) "The user programmed current flowing from these pins to GND set the turn-on delay for the corresponding output pair. This delay is introduced between turn-off of one switch and turn-on of another in the same leg of the bridge (See Datasheet)", 25 NC "No Connection", 26 OUTD (out) "The output is 2A totem-pole drivers optimized for both MOSFET gates and level-shifting transformers. The outputs operate as pairs with a nominal 50% duty-cycle.The C-D pair will drive the other half-bridge with switching (See Datasheet)", 27 OUTC (out) "The output is 2A totem-pole drivers optimized for both MOSFET gates and level-shifting transformers. The outputs operate as pairs with a nominal 50% duty-cycle.The C-D pair will drive the other half-bridge with switching (See Datasheet)", 28 VC (power) "This pin supplies power to the output drivers and their associated bias circuitry. Connect VC to a stable source above 3V for normal operation, above 12V for best performance. This supply should be bypassed directly to the (See Datasheet)"

## 5962-9455501MRA
designator U?
Phase Shift Resonant Controller with Current, Voltage Control, 100 % Duty Cycle, -55 to +125 degC, 20-pin CDIP (J); PartNumber: 5962-9455501MRA; Manufacturer: Texas Instruments; Duty Cycle(Max)(%): 100; Eco-Plan: TBD; Frequency(Max)(kHz): 1000; Rating: Military; Regulated Outputs(#): 4; SubFamily: PWM Controller; Topology: Full-Bridge; UVLO Thresholds On/Off(V): 10/7/9.2; DatasheetVersion: SLUS229C; PackageVersion: revF, Mar-2003; PackageReference: J20; PackageDescription: 20-Pin, Ceramic Dual In-Line Package, Row Spacing 7.62 mm, Pitch 2.54 mm; Control Method: Current, Voltage; Mounting Technology: Through Hole; ComponentLink1Description: Datasheet; ComponentLink1URL: http://www.ti.com/general/docs/lit/getliterature.tsp?genericPartNumber=UC1875&fileType=pdf
footprint J20 (DIP, 20-Leads, Row Spacing 7.62mm, Pitch 2.54mm, Body 26.9x6.9mm)
pins: 1 VREF (out), 2 E/AOUT (out), 3 EA- (in), 4 EA+ (in), 5 CS+ (in), 6 SOFTSTART (in), 7 DELAYSET  C-D (in), 8 OUTD (out), 9 OUTC (out), 10 VC (power), 11 VIN (power), 12 PWRGND (power), 13 OUTB (out), 14 OUTA (out), 15 DELAYSET  A-B (in), 16 FREQSET (in), 17 CLOCKSYNC (io), 18 SLOPE (in), 19 RAMP (in), 20 GND (power)